# EAGLE library part MUX_SN74LV4051ARGYR (library 1_ZeroUI)
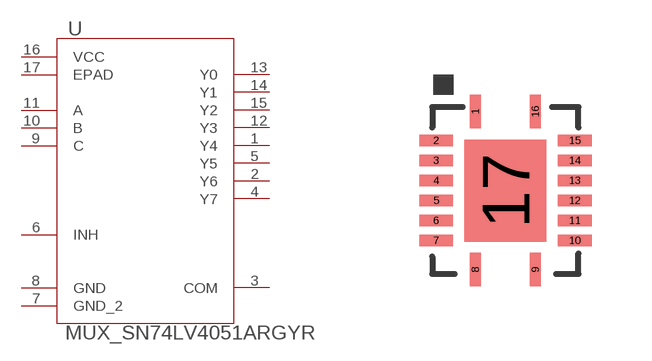
[diagram p12: symbol with the pads of TSSOP16-MUX; footprint TSSOP16-MUX]

Designator prefix -

## MUX_SN74LV4051ARGYR (3D_LIBRARY_NAME: TI_AllParts_2012-12-25; COPYRIGHT: Copyright (C) 2015 Accelerated Designs. All rights reserved; DATASHEETURL: http://www.ti.com/lit/gpn/SN74LV4051A; FAMILY_NAME: ANALOG SWITCH/MULTIPLEXER(less than or equal to 5V); GENERIC_PART_NUMBER: SN74LV4051A; INDUSTRY_STD_PKG_TYPE: VQFN; MANUFACTURER: Texas Instruments; MANUFACTURER_PART_NUMBER: SN74LV4051ARGYR; PACKAGE_DESIGNATOR: RGY; PIN_COUNT: 16; VENDOR: Texas Instruments)  [TSSOP16-MUX]
1  Y4  out
2  Y6  out
3  COM  in
4  Y7  out
5  Y5  out
6  INH  in
7  GND_2  pwr
8  GND  pwr
9  C  in
10  B  in
11  A  in
12  Y3  out
13  Y0  out
14  Y1  out
15  Y2  out
16  VCC  pwr
17  EPAD  pas

## Footprint TSSOP16-MUX (pad centres in mm)
smd 0.28 x 0.85: 1 -0.75,1.975; 8 -0.75,-1.975; 9 0.75,-1.975; 16 0.75,1.975
smd 0.85 x 0.28: 2 -1.733,1.25; 3 -1.733,0.75; 4 -1.733,0.25; 5 -1.733,-0.25; 6 -1.733,-0.75; 7 -1.733,-1.25; 10 1.733,-1.25; 11 1.733,-0.75; 12 1.733,-0.25; 13 1.733,0.25; 14 1.733,0.75; 15 1.733,1.25
smd 2.05 x 2.55: 17 0,0